# EAGLE library part TLV7256IDDUR (library NIPCB)
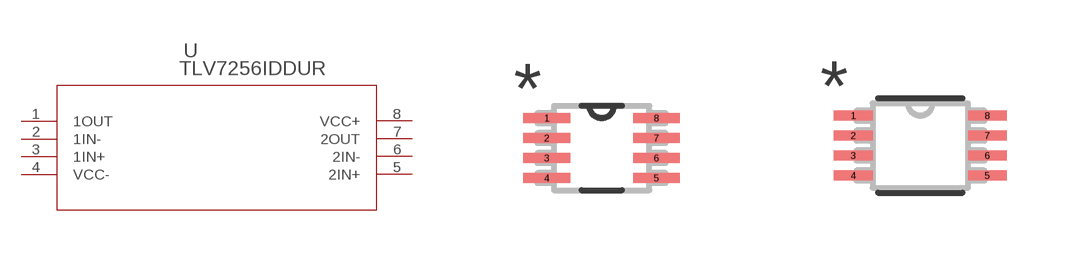
[diagram p10: symbol with the pads of DDU8; footprints DDU8, DDU8-M]

Designator prefix U

## TLV7256IDDURDDU8 (COPYRIGHT: Copyright (C) 2024 Ultra Librarian. All rights reserved.; MANUFACTURER_PART_NUMBER: TLV7256IDDUR; MFR_NAME: Texas Instruments)  [DDU8]
1  1OUT  out
2  1IN-  in
3  1IN+  in
4  VCC-  pwr
5  2IN+  in
6  2IN-  in
7  2OUT  out
8  VCC+  pwr

## TLV7256IDDURDDU8-M (COPYRIGHT: Copyright (C) 2024 Ultra Librarian. All rights reserved.; MANUFACTURER_PART_NUMBER: TLV7256IDDUR; MFR_NAME: Texas Instruments)  [DDU8-M]
Pads as for DDU8

## TLV7256IDDURDDU8-L (COPYRIGHT: Copyright (C) 2024 Ultra Librarian. All rights reserved.; MANUFACTURER_PART_NUMBER: TLV7256IDDUR; MFR_NAME: Texas Instruments)  [DDU8-L]
Pads as for DDU8

## Footprint DDU8 (pad centres in mm)
smd 1.168 x 0.254: 1 -1.372,0.75; 2 -1.372,0.25; 3 -1.372,-0.25; 4 -1.372,-0.75; 5 1.372,-0.75; 6 1.372,-0.25; 7 1.372,0.25; 8 1.372,0.75

## Footprint DDU8-M (pad centres in mm)
smd 0.965 x 0.254: 1 -1.676,0.75; 2 -1.676,0.25; 3 -1.676,-0.25; 4 -1.676,-0.75; 5 1.676,-0.75; 6 1.676,-0.25; 7 1.676,0.25; 8 1.676,0.75

## Footprint DDU8-L (pad centres in mm)
smd 0.559 x 0.203: 1 -1.473,0.75; 2 -1.473,0.25; 3 -1.473,-0.25; 4 -1.473,-0.75; 5 1.473,-0.75; 6 1.473,-0.25; 7 1.473,0.25; 8 1.473,0.75